# Altium footprint library 4.81-BNC座.PcbLib: 1 footprints
Each footprint in its own frame and in the unit in brackets; x right, y up, seen from the top. Pads: shape width x height; smd on the part's side, far side on the other; paste and mask are expansions set on the pad; w line width, h text height; cw(c..) or ccw(c..) is an arc to the next point about the centre after c.
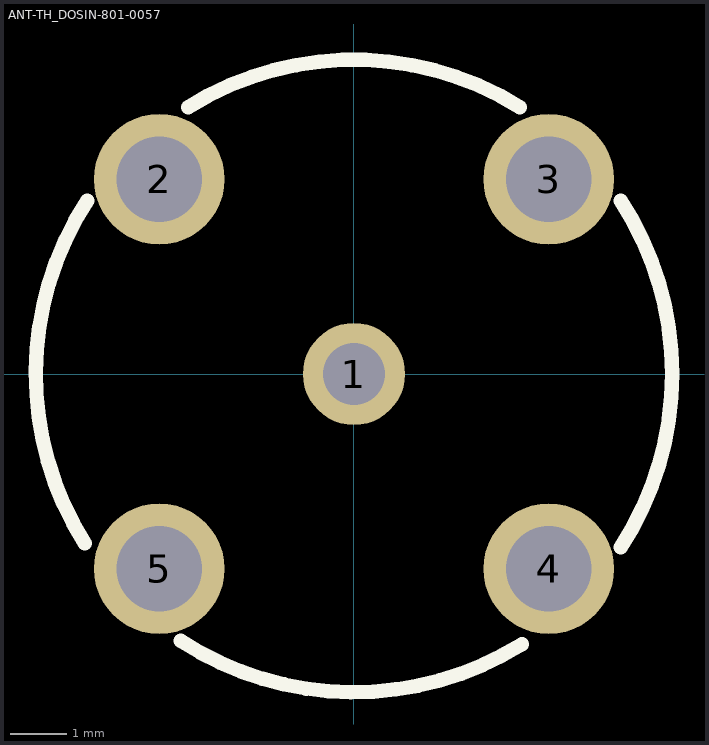
[diagram p0: the footprint, top view; thin cyan lines are the x and y axes]

## ANT-TH_DOSIN-801-0057 [mm]
pads (5):
  round 1.8 hole 1.1 paste+0 mask+0.051: 1(0,0)
  round 2.3 hole 1.5 paste+0 mask+0.051: 2(-3.429,3.429) 3(3.429,3.429) 4(3.429,-3.429) 5(-3.429,-3.429)
Top Overlay:
  lines w0.254: -4.742,-2.981 cw(c0,0) -4.699,3.048 ; -3.048,-4.699 ccw(c0,0) 2.957,-4.757 ; -2.921,4.699 cw(c0,0) 2.921,4.699 ; 4.699,-3.048 ccw(c0,0) 4.699,3.048
3D body "3D_PCB1_2024-06-14.STEP": height 20.75, standoff -3.45, extent -5.514,-5.519 5.586,5.581